# Altium footprint library IPC-7353 SOIC_127P_M.PcbLib: 15 footprints
Each footprint in its own frame and in the unit in brackets; x right, y up, seen from the top. Pads: shape width x height; smd on the part's side, far side on the other; paste and mask are expansions set on the pad; w line width, h text height; cw(c..) or ccw(c..) is an arc to the next point about the centre after c.
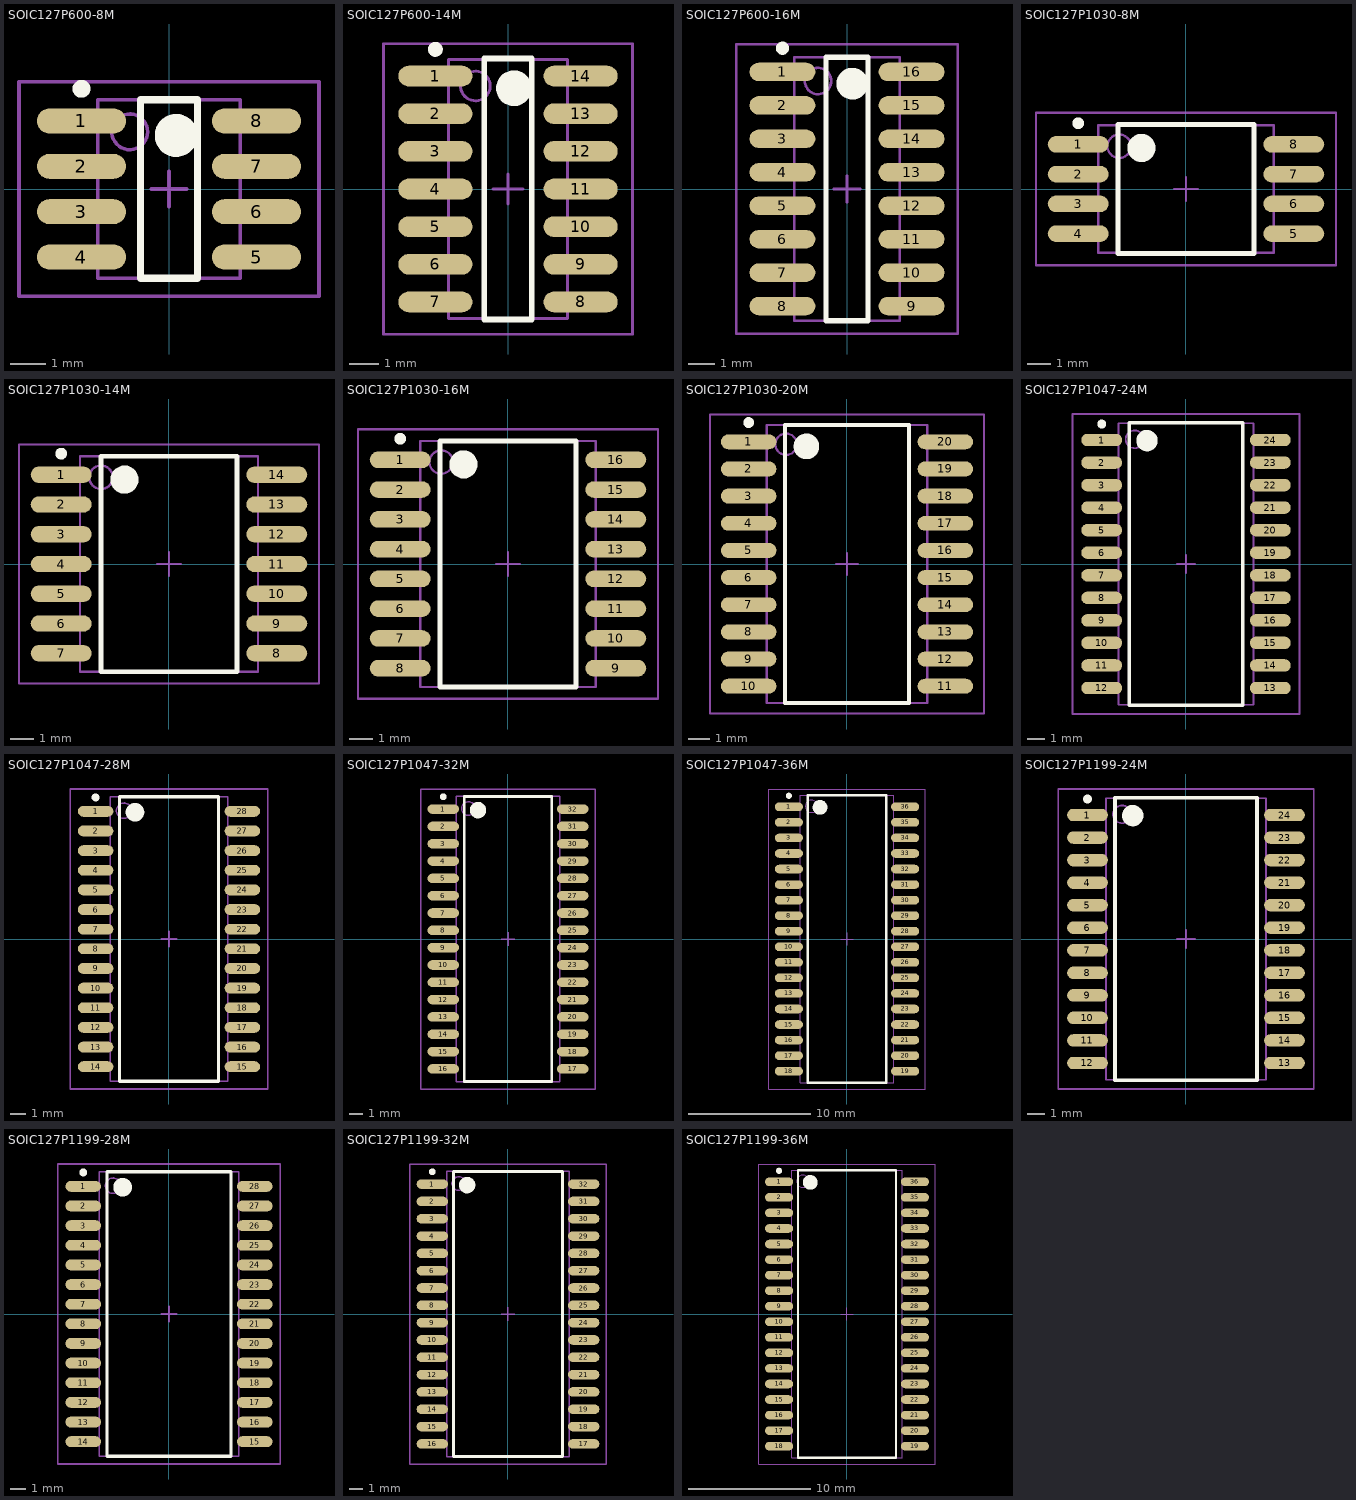
[diagram p0: the footprints below, top view; thin cyan lines are the x and y axes]

## SOIC127P600-8M [mm] "SOIC, 8-Leads, Body 4.9x3.9mm, Pitch 1.27mm, IPC Low Density"
height 1.75
pads (8):
  oval 2.5x0.7 smd: 1(-2.45,1.905) 2(-2.45,0.635) 3(-2.45,-0.635) 4(-2.45,-1.905) 5(2.45,-1.905) 6(2.45,-0.635) 7(2.45,0.635) 8(2.45,1.905)
Top Overlay:
  circle w0.25: c-2.45,2.805 r0.125
  circle w0.6: c0.2,1.5 r0.3
  lines w0.2: -0.8,-2.5 -0.8,2.5 0.8,2.5 0.8,-2.5 -0.8,-2.5
Mechanical 13:
  circle w0.1: c-1.1,1.6 r0.5
  lines w0.1: -2,-2.5 -2,2.5 2,2.5 2,-2.5 -2,-2.5
Mechanical 15:
  lines w0.1: -0.5,0 0.5,0 ; 0,-0.5 0,0.5 ; -4.2,-3 -4.2,3 4.2,3 4.2,-3 -4.2,-3
3D body: height 1.75, standoff 0, extent -2,-2.5 2,2.5

## SOIC127P600-14M [mm] "SOIC, 14-Leads, Body 8.7x3.9mm, Pitch 1.27mm, IPC Low Density"
height 1.75
pads (14):
  oval 2.5x0.7 smd: 1(-2.45,3.81) 2(-2.45,2.54) 3(-2.45,1.27) 4(-2.45,0) 5(-2.45,-1.27) 6(-2.45,-2.54) 7(-2.45,-3.81) 8(2.45,-3.81) 9(2.45,-2.54) 10(2.45,-1.27) 11(2.45,0) 12(2.45,1.27) 13(2.45,2.54) 14(2.45,3.81)
Top Overlay:
  circle w0.6: c0.2,3.4 r0.3
  circle w0.25: c-2.45,4.71 r0.125
  lines w0.2: -0.8,-4.4 0.8,-4.4 0.8,4.4 -0.8,4.4 -0.8,-4.4
Mechanical 13:
  circle w0.1: c-1.1,3.475 r0.5
  lines w0.1: -2,-4.375 2,-4.375 2,4.375 -2,4.375 -2,-4.375
Mechanical 15:
  lines w0.1: -0.5,0 0.5,0 ; 0,-0.5 0,0.5 ; -4.2,-4.9 4.2,-4.9 4.2,4.9 -4.2,4.9 -4.2,-4.9
3D body: height 1.75, standoff 0, extent -2,-4.375 2,4.375

## SOIC127P600-16M [mm] "SOIC, 16-Leads, Body 9.9x3.9mm, Pitch 1.27mm, IPC Low Density"
height 1.75
pads (16):
  oval 2.5x0.7 smd: 1(-2.45,4.445) 2(-2.45,3.175) 3(-2.45,1.905) 4(-2.45,0.635) 5(-2.45,-0.635) 6(-2.45,-1.905) 7(-2.45,-3.175) 8(-2.45,-4.445) 9(2.45,-4.445) 10(2.45,-3.175) 11(2.45,-1.905) 12(2.45,-0.635) 13(2.45,0.635) 14(2.45,1.905) 15(2.45,3.175) 16(2.45,4.445)
Top Overlay:
  circle w0.6: c0.2,4 r0.3
  circle w0.25: c-2.45,5.345 r0.125
  lines w0.2: -0.8,-5 0.8,-5 0.8,5 -0.8,5 -0.8,-5
Mechanical 13:
  circle w0.1: c-1.1,4.1 r0.5
  lines w0.1: -2,-5 2,-5 2,5 -2,5 -2,-5
Mechanical 15:
  lines w0.1: -0.5,0 0.5,0 ; 0,-0.5 0,0.5 ; -4.2,-5.5 4.2,-5.5 4.2,5.5 -4.2,5.5 -4.2,-5.5
3D body: height 1.75, standoff 0, extent -2,-5 2,5

## SOIC127P1030-8M [mm] "SOIC, 8-Leads, Body 5.3x7.5mm, Pitch 1.27mm, IPC Low Density"
height 2.65
pads (8):
  oval 2.6x0.7 smd: 1(-4.6,1.905) 2(-4.6,0.635) 3(-4.6,-0.635) 4(-4.6,-1.905) 5(4.6,-1.905) 6(4.6,-0.635) 7(4.6,0.635) 8(4.6,1.905)
Top Overlay:
  circle w0.25: c-4.6,2.805 r0.125
  circle w0.6: c-1.9,1.75 r0.3
  lines w0.2: -2.9,-2.75 -2.9,2.75 2.9,2.75 2.9,-2.75 -2.9,-2.75
Mechanical 13:
  circle w0.1: c-2.85,1.825 r0.5
  lines w0.1: -3.75,-2.725 -3.75,2.725 3.75,2.725 3.75,-2.725 -3.75,-2.725
Mechanical 15:
  lines w0.1: -0.5,0 0.5,0 ; 0,-0.5 0,0.5 ; -6.4,-3.25 -6.4,3.25 6.4,3.25 6.4,-3.25 -6.4,-3.25
3D body: height 2.65, standoff 0, extent -3.75,-2.725 3.75,2.725

## SOIC127P1030-14M [mm] "SOIC, 14-Leads, Body 9x7.5mm, Pitch 1.27mm, IPC Low Density"
height 2.65
pads (14):
  oval 2.6x0.7 smd: 1(-4.6,3.81) 2(-4.6,2.54) 3(-4.6,1.27) 4(-4.6,0) 5(-4.6,-1.27) 6(-4.6,-2.54) 7(-4.6,-3.81) 8(4.6,-3.81) 9(4.6,-2.54) 10(4.6,-1.27) 11(4.6,0) 12(4.6,1.27) 13(4.6,2.54) 14(4.6,3.81)
Top Overlay:
  circle w0.6: c-1.9,3.6 r0.3
  circle w0.25: c-4.6,4.71 r0.125
  lines w0.2: -2.9,-4.6 2.9,-4.6 2.9,4.6 -2.9,4.6 -2.9,-4.6
Mechanical 13:
  circle w0.1: c-2.9,3.7 r0.5
  lines w0.1: -3.8,-4.6 3.8,-4.6 3.8,4.6 -3.8,4.6 -3.8,-4.6
Mechanical 15:
  lines w0.1: -0.5,0 0.5,0 ; 0,-0.5 0,0.5 ; -6.4,-5.1 6.4,-5.1 6.4,5.1 -6.4,5.1 -6.4,-5.1
3D body: height 2.65, standoff 0, extent -3.8,-4.6 3.8,4.6

## SOIC127P1030-16M [mm] "SOIC, 16-Leads, Body 10.3x7.5mm, Pitch 1.27mm, IPC Low Density"
height 2.65
pads (16):
  oval 2.6x0.7 smd: 1(-4.6,4.445) 2(-4.6,3.175) 3(-4.6,1.905) 4(-4.6,0.635) 5(-4.6,-0.635) 6(-4.6,-1.905) 7(-4.6,-3.175) 8(-4.6,-4.445) 9(4.6,-4.445) 10(4.6,-3.175) 11(4.6,-1.905) 12(4.6,-0.635) 13(4.6,0.635) 14(4.6,1.905) 15(4.6,3.175) 16(4.6,4.445)
Top Overlay:
  circle w0.25: c-4.6,5.345 r0.125
  circle w0.6: c-1.9,4.25 r0.3
  lines w0.2: -2.9,-5.25 -2.9,5.25 2.9,5.25 2.9,-5.25 -2.9,-5.25
Mechanical 13:
  circle w0.1: c-2.85,4.35 r0.5
  lines w0.1: -3.75,-5.25 -3.75,5.25 3.75,5.25 3.75,-5.25 -3.75,-5.25
Mechanical 15:
  lines w0.1: -0.5,0 0.5,0 ; 0,-0.5 0,0.5 ; -6.4,-5.75 -6.4,5.75 6.4,5.75 6.4,-5.75 -6.4,-5.75
3D body: height 2.65, standoff 0, extent -3.75,-5.25 3.75,5.25

## SOIC127P1030-20M [mm] "SOIC, 20-Leads, Body 12.8x7.5mm, Pitch 1.27mm, IPC Low Density"
height 2.65
pads (20):
  oval 2.6x0.7 smd: 1(-4.6,5.715) 2(-4.6,4.445) 3(-4.6,3.175) 4(-4.6,1.905) 5(-4.6,0.635) 6(-4.6,-0.635) 7(-4.6,-1.905) 8(-4.6,-3.175) 9(-4.6,-4.445) 10(-4.6,-5.715) 11(4.6,-5.715) 12(4.6,-4.445) 13(4.6,-3.175) 14(4.6,-1.905) 15(4.6,-0.635) 16(4.6,0.635) 17(4.6,1.905) 18(4.6,3.175) 19(4.6,4.445) 20(4.6,5.715)
Top Overlay:
  circle w0.6: c-1.9,5.5 r0.3
  circle w0.25: c-4.6,6.615 r0.125
  lines w0.2: -2.9,-6.5 2.9,-6.5 2.9,6.5 -2.9,6.5 -2.9,-6.5
Mechanical 13:
  circle w0.1: c-2.85,5.6 r0.5
  lines w0.1: -3.75,-6.5 3.75,-6.5 3.75,6.5 -3.75,6.5 -3.75,-6.5
Mechanical 15:
  lines w0.1: -0.5,0 0.5,0 ; 0,-0.5 0,0.5 ; -6.4,-7 6.4,-7 6.4,7 -6.4,7 -6.4,-7
3D body: height 2.65, standoff 0, extent -3.75,-6.5 3.75,6.5

## SOIC127P1047-24M [mm] "SOIC, 24-Leads, Body 15.7x7.5mm, Pitch 1.27mm, IPC Low Density"
height 2.64
pads (24):
  oval 2.3x0.7 smd: 1(-4.75,6.985) 2(-4.75,5.715) 3(-4.75,4.445) 4(-4.75,3.175) 5(-4.75,1.905) 6(-4.75,0.635) 7(-4.75,-0.635) 8(-4.75,-1.905) 9(-4.75,-3.175) 10(-4.75,-4.445) 11(-4.75,-5.715) 12(-4.75,-6.985) 13(4.75,-6.985) 14(4.75,-5.715) 15(4.75,-4.445) 16(4.75,-3.175) 17(4.75,-1.905) 18(4.75,-0.635) 19(4.75,0.635) 20(4.75,1.905) 21(4.75,3.175) 22(4.75,4.445) 23(4.75,5.715) 24(4.75,6.985)
Top Overlay:
  circle w0.6: c-2.2,6.95 r0.3
  circle w0.25: c-4.75,7.885 r0.125
  lines w0.2: -3.2,-7.95 3.2,-7.95 3.2,7.95 -3.2,7.95 -3.2,-7.95
Mechanical 13:
  circle w0.1: c-2.9,7.025 r0.5
  lines w0.1: -3.8,-7.925 3.8,-7.925 3.8,7.925 -3.8,7.925 -3.8,-7.925
Mechanical 15:
  lines w0.1: -0.5,0 0.5,0 ; 0,-0.5 0,0.5 ; -6.4,-8.45 6.4,-8.45 6.4,8.45 -6.4,8.45 -6.4,-8.45
3D body: height 2.64, standoff 0, extent -3.8,-7.925 3.8,7.925

## SOIC127P1047-28M [mm] "SOIC, 28-Leads, Body 18.2x7.5mm, Pitch 1.27mm, IPC Low Density"
height 2.64
pads (28):
  oval 2.3x0.7 smd: 1(-4.75,8.255) 2(-4.75,6.985) 3(-4.75,5.715) 4(-4.75,4.445) 5(-4.75,3.175) 6(-4.75,1.905) 7(-4.75,0.635) 8(-4.75,-0.635) 9(-4.75,-1.905) 10(-4.75,-3.175) 11(-4.75,-4.445) 12(-4.75,-5.715) 13(-4.75,-6.985) 14(-4.75,-8.255) 15(4.75,-8.255) 16(4.75,-6.985) 17(4.75,-5.715) 18(4.75,-4.445) 19(4.75,-3.175) 20(4.75,-1.905) 21(4.75,-0.635) 22(4.75,0.635) 23(4.75,1.905) 24(4.75,3.175) 25(4.75,4.445) 26(4.75,5.715) 27(4.75,6.985) 28(4.75,8.255)
Top Overlay:
  circle w0.6: c-2.2,8.2 r0.3
  circle w0.25: c-4.75,9.155 r0.125
  lines w0.2: -3.2,-9.2 3.2,-9.2 3.2,9.2 -3.2,9.2 -3.2,-9.2
Mechanical 13:
  circle w0.1: c-2.9,8.295 r0.5
  lines w0.1: -3.8,-9.195 3.8,-9.195 3.8,9.195 -3.8,9.195 -3.8,-9.195
Mechanical 15:
  lines w0.1: -0.5,0 0.5,0 ; 0,-0.5 0,0.5 ; -6.4,-9.7 6.4,-9.7 6.4,9.7 -6.4,9.7 -6.4,-9.7
3D body: height 2.64, standoff 0, extent -3.8,-9.195 3.8,9.195

## SOIC127P1047-32M [mm] "SOIC, 32-Leads, Body 20.8x7.5mm, Pitch 1.27mm, IPC Low Density"
height 2.64
pads (32):
  oval 2.3x0.7 smd: 1(-4.75,9.525) 2(-4.75,8.255) 3(-4.75,6.985) 4(-4.75,5.715) 5(-4.75,4.445) 6(-4.75,3.175) 7(-4.75,1.905) 8(-4.75,0.635) 9(-4.75,-0.635) 10(-4.75,-1.905) 11(-4.75,-3.175) 12(-4.75,-4.445) 13(-4.75,-5.715) 14(-4.75,-6.985) 15(-4.75,-8.255) 16(-4.75,-9.525) 17(4.75,-9.525) 18(4.75,-8.255) 19(4.75,-6.985) 20(4.75,-5.715) 21(4.75,-4.445) 22(4.75,-3.175) 23(4.75,-1.905) 24(4.75,-0.635) 25(4.75,0.635) 26(4.75,1.905) 27(4.75,3.175) 28(4.75,4.445) 29(4.75,5.715) 30(4.75,6.985) 31(4.75,8.255) 32(4.75,9.525)
Top Overlay:
  circle w0.6: c-2.2,9.45 r0.3
  circle w0.25: c-4.75,10.425 r0.125
  lines w0.2: -3.2,-10.45 3.2,-10.45 3.2,10.45 -3.2,10.45 -3.2,-10.45
Mechanical 13:
  circle w0.1: c-2.9,9.565 r0.5
  lines w0.1: -3.8,-10.465 3.8,-10.465 3.8,10.465 -3.8,10.465 -3.8,-10.465
Mechanical 15:
  lines w0.1: -0.5,0 0.5,0 ; 0,-0.5 0,0.5 ; -6.4,-11 6.4,-11 6.4,11 -6.4,11 -6.4,-11
3D body: height 2.64, standoff 0, extent -3.8,-10.465 3.8,10.465

## SOIC127P1047-36M [mm] "SOIC, 36-Leads, Body 23.3x7.5mm, Pitch 1.27mm, IPC Low Density"
height 2.64
pads (36):
  oval 2.3x0.7 smd: 1(-4.75,10.795) 2(-4.75,9.525) 3(-4.75,8.255) 4(-4.75,6.985) 5(-4.75,5.715) 6(-4.75,4.445) 7(-4.75,3.175) 8(-4.75,1.905) 9(-4.75,0.635) 10(-4.75,-0.635) 11(-4.75,-1.905) 12(-4.75,-3.175) 13(-4.75,-4.445) 14(-4.75,-5.715) 15(-4.75,-6.985) 16(-4.75,-8.255) 17(-4.75,-9.525) 18(-4.75,-10.795) 19(4.75,-10.795) 20(4.75,-9.525) 21(4.75,-8.255) 22(4.75,-6.985) 23(4.75,-5.715) 24(4.75,-4.445) 25(4.75,-3.175) 26(4.75,-1.905) 27(4.75,-0.635) 28(4.75,0.635) 29(4.75,1.905) 30(4.75,3.175) 31(4.75,4.445) 32(4.75,5.715) 33(4.75,6.985) 34(4.75,8.255) 35(4.75,9.525) 36(4.75,10.795)
Top Overlay:
  circle w0.6: c-2.2,10.75 r0.3
  circle w0.25: c-4.75,11.695 r0.125
  lines w0.2: -3.2,-11.75 3.2,-11.75 3.2,11.75 -3.2,11.75 -3.2,-11.75
Mechanical 13:
  circle w0.1: c-2.9,10.835 r0.5
  lines w0.1: -3.8,-11.735 3.8,-11.735 3.8,11.735 -3.8,11.735 -3.8,-11.735
Mechanical 15:
  lines w0.1: -0.5,0 0.5,0 ; 0,-0.5 0,0.5 ; -6.4,-12.25 6.4,-12.25 6.4,12.25 -6.4,12.25 -6.4,-12.25
3D body: height 2.64, standoff 0, extent -3.8,-11.735 3.8,11.735

## SOIC127P1199-24M [mm] "SOIC, 24-Leads, Body 15.7x8.9mm, Pitch 1.27mm, IPC Low Density"
height 2.64
pads (24):
  oval 2.3x0.7 smd: 1(-5.55,6.985) 2(-5.55,5.715) 3(-5.55,4.445) 4(-5.55,3.175) 5(-5.55,1.905) 6(-5.55,0.635) 7(-5.55,-0.635) 8(-5.55,-1.905) 9(-5.55,-3.175) 10(-5.55,-4.445) 11(-5.55,-5.715) 12(-5.55,-6.985) 13(5.55,-6.985) 14(5.55,-5.715) 15(5.55,-4.445) 16(5.55,-3.175) 17(5.55,-1.905) 18(5.55,-0.635) 19(5.55,0.635) 20(5.55,1.905) 21(5.55,3.175) 22(5.55,4.445) 23(5.55,5.715) 24(5.55,6.985)
Top Overlay:
  circle w0.6: c-3,6.95 r0.3
  circle w0.25: c-5.55,7.885 r0.125
  lines w0.2: -4,-7.95 4,-7.95 4,7.95 -4,7.95 -4,-7.95
Mechanical 13:
  circle w0.1: c-3.61,7.025 r0.5
  lines w0.1: -4.51,-7.925 4.51,-7.925 4.51,7.925 -4.51,7.925 -4.51,-7.925
Mechanical 15:
  lines w0.1: -0.5,0 0.5,0 ; 0,-0.5 0,0.5 ; -7.2,-8.45 7.2,-8.45 7.2,8.45 -7.2,8.45 -7.2,-8.45
3D body: height 2.64, standoff 0, extent -4.51,-7.925 4.51,7.925

## SOIC127P1199-28M [mm] "SOIC, 28-Leads, Body 18.2x8.9mm, Pitch 1.27mm, IPC Low Density"
height 2.64
pads (28):
  oval 2.3x0.7 smd: 1(-5.55,8.255) 2(-5.55,6.985) 3(-5.55,5.715) 4(-5.55,4.445) 5(-5.55,3.175) 6(-5.55,1.905) 7(-5.55,0.635) 8(-5.55,-0.635) 9(-5.55,-1.905) 10(-5.55,-3.175) 11(-5.55,-4.445) 12(-5.55,-5.715) 13(-5.55,-6.985) 14(-5.55,-8.255) 15(5.55,-8.255) 16(5.55,-6.985) 17(5.55,-5.715) 18(5.55,-4.445) 19(5.55,-3.175) 20(5.55,-1.905) 21(5.55,-0.635) 22(5.55,0.635) 23(5.55,1.905) 24(5.55,3.175) 25(5.55,4.445) 26(5.55,5.715) 27(5.55,6.985) 28(5.55,8.255)
Top Overlay:
  circle w0.6: c-3,8.2 r0.3
  circle w0.25: c-5.55,9.155 r0.125
  lines w0.2: -4,-9.2 4,-9.2 4,9.2 -4,9.2 -4,-9.2
Mechanical 13:
  circle w0.1: c-3.61,8.295 r0.5
  lines w0.1: -4.51,-9.195 4.51,-9.195 4.51,9.195 -4.51,9.195 -4.51,-9.195
Mechanical 15:
  lines w0.1: -0.5,0 0.5,0 ; 0,-0.5 0,0.5 ; -7.2,-9.7 7.2,-9.7 7.2,9.7 -7.2,9.7 -7.2,-9.7
3D body: height 2.64, standoff 0, extent -4.51,-9.195 4.51,9.195

## SOIC127P1199-32M [mm] "SOIC, 32-Leads, Body 20.8x8.9mm, Pitch 1.27mm, IPC Low Density"
height 2.64
pads (32):
  oval 2.3x0.7 smd: 1(-5.55,9.525) 2(-5.55,8.255) 3(-5.55,6.985) 4(-5.55,5.715) 5(-5.55,4.445) 6(-5.55,3.175) 7(-5.55,1.905) 8(-5.55,0.635) 9(-5.55,-0.635) 10(-5.55,-1.905) 11(-5.55,-3.175) 12(-5.55,-4.445) 13(-5.55,-5.715) 14(-5.55,-6.985) 15(-5.55,-8.255) 16(-5.55,-9.525) 17(5.55,-9.525) 18(5.55,-8.255) 19(5.55,-6.985) 20(5.55,-5.715) 21(5.55,-4.445) 22(5.55,-3.175) 23(5.55,-1.905) 24(5.55,-0.635) 25(5.55,0.635) 26(5.55,1.905) 27(5.55,3.175) 28(5.55,4.445) 29(5.55,5.715) 30(5.55,6.985) 31(5.55,8.255) 32(5.55,9.525)
Top Overlay:
  circle w0.6: c-3,9.45 r0.3
  circle w0.25: c-5.55,10.425 r0.125
  lines w0.2: -4,-10.45 4,-10.45 4,10.45 -4,10.45 -4,-10.45
Mechanical 13:
  circle w0.1: c-3.61,9.565 r0.5
  lines w0.1: -4.51,-10.465 4.51,-10.465 4.51,10.465 -4.51,10.465 -4.51,-10.465
Mechanical 15:
  lines w0.1: -0.5,0 0.5,0 ; 0,-0.5 0,0.5 ; -7.2,-11 7.2,-11 7.2,11 -7.2,11 -7.2,-11
3D body: height 2.64, standoff 0, extent -4.51,-10.465 4.51,10.465

## SOIC127P1199-36M [mm] "SOIC, 36-Leads, Body 23.3x8.9mm, Pitch 1.27mm, IPC Low Density"
height 2.64
pads (36):
  oval 2.3x0.7 smd: 1(-5.55,10.795) 2(-5.55,9.525) 3(-5.55,8.255) 4(-5.55,6.985) 5(-5.55,5.715) 6(-5.55,4.445) 7(-5.55,3.175) 8(-5.55,1.905) 9(-5.55,0.635) 10(-5.55,-0.635) 11(-5.55,-1.905) 12(-5.55,-3.175) 13(-5.55,-4.445) 14(-5.55,-5.715) 15(-5.55,-6.985) 16(-5.55,-8.255) 17(-5.55,-9.525) 18(-5.55,-10.795) 19(5.55,-10.795) 20(5.55,-9.525) 21(5.55,-8.255) 22(5.55,-6.985) 23(5.55,-5.715) 24(5.55,-4.445) 25(5.55,-3.175) 26(5.55,-1.905) 27(5.55,-0.635) 28(5.55,0.635) 29(5.55,1.905) 30(5.55,3.175) 31(5.55,4.445) 32(5.55,5.715) 33(5.55,6.985) 34(5.55,8.255) 35(5.55,9.525) 36(5.55,10.795)
Top Overlay:
  circle w0.6: c-3,10.75 r0.3
  circle w0.25: c-5.55,11.695 r0.125
  lines w0.2: -4,-11.75 4,-11.75 4,11.75 -4,11.75 -4,-11.75
Mechanical 13:
  circle w0.1: c-3.61,10.835 r0.5
  lines w0.1: -4.51,-11.735 4.51,-11.735 4.51,11.735 -4.51,11.735 -4.51,-11.735
Mechanical 15:
  lines w0.1: -0.5,0 0.5,0 ; 0,-0.5 0,0.5 ; -7.2,-12.25 7.2,-12.25 7.2,12.25 -7.2,12.25 -7.2,-12.25
3D body: height 2.64, standoff 0, extent -4.51,-11.735 4.51,11.735